# Altium integrated library TL3305AF160QG.IntLib: 1 symbol
Pins are listed as number, name and electrical type; pins without a type are passive.

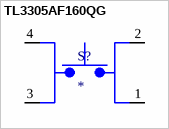
[diagram p0: symbol TL3305AF160QG]

## TL3305AF160QG
designator S?
Tactile Switch SPST-NO Top Actuated Surface Mount; MF: E-Switch; MP: TL3305AF160QG; Check_prices: https://www.snapeda.com/parts/TL3305AF160QG/E-Switch/view-part/?ref=eda; SnapEDA_Link: https://www.snapeda.com/parts/TL3305AF160QG/E-Switch/view-part/?ref=snap; Price: None; Availability: In Stock; Value: *; Package: None; Purchase-URL: https://pricing.snapeda.com/search/part/TL3305AF160QG/?ref=eda
footprint SW_TL3305AF160QG
pins: 1, 2, 3, 4